# Altium footprint library Conn_Amphenol_ICC_-_FCI_10118193-0001LF_eec_MFG.PcbLib: 1 footprints
Each footprint in its own frame and in the unit in brackets; x right, y up, seen from the top. Pads: shape width x height; smd on the part's side, far side on the other; paste and mask are expansions set on the pad; w line width, h text height; cw(c..) or ccw(c..) is an arc to the next point about the centre after c.
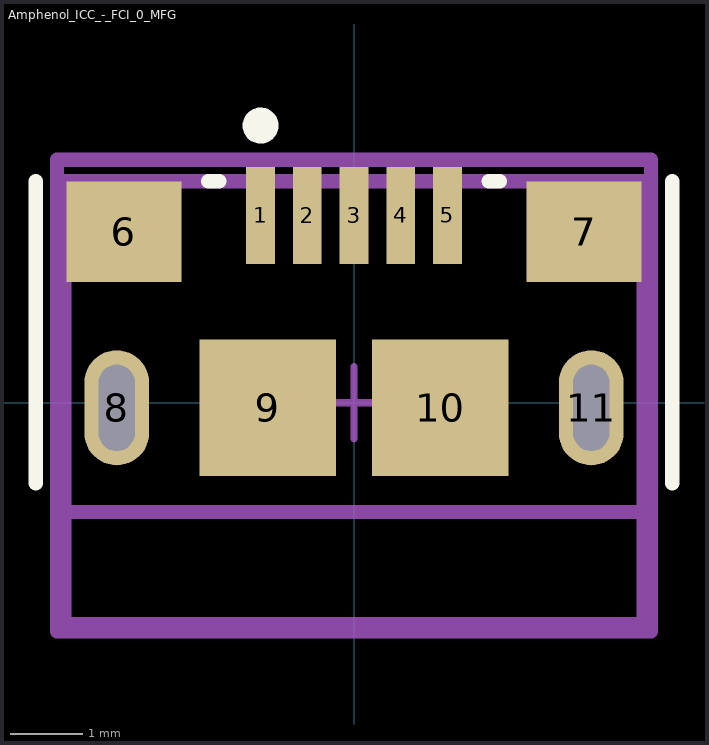
[diagram p0: the footprint, top view; thin cyan lines are the x and y axes]

## Amphenol_ICC_-_FCI_0_MFG [mm]
pads (11):
  rect 0.4x1.35 smd paste+0 mask+0: 1(-1.3,2.605) 2(-0.65,2.605) 3(0,2.605) 4(0.65,2.605) 5(1.3,2.605)
  rect 1.6x1.4 smd paste+0 mask+0: 6(-3.2,2.38) 7(3.2,2.38)
  rrect100% 0.9x1.6 hole 1.2 slot 0.5 at 0 deg paste-1000 mask+0: 8(-3.3,-0.07) 11(3.3,-0.07)
  rect 1.9x1.9 smd paste+0 mask+0: 9(-1.2,-0.07) 10(1.2,-0.07)
Top Overlay:
  circle w0.25: c-1.3,3.855 r0.125
  lines w0.2: -4.425,-1.12 -4.425,3.08 ; -2.025,3.08 -1.875,3.08 ; 1.875,3.08 2.025,3.08 ; 4.425,-1.12 4.425,3.08
Mechanical 10:
  lines w0.2: -4.13,-3.18 4.13,-3.18 4.13,3.38 -4.13,3.38 -4.13,-3.18
  text ".Designator" at 0,0.288 h1
Mechanical 12:
  lines w0.2: -4.13,-1.52 4.13,-1.52 ; -4.03,-3.08 4.03,-3.08 4.03,3.08 -4.03,3.08 -4.03,-3.08
Mechanical 15:
  lines w0.1: -0.5,0 0.5,0 ; 0,-0.5 0,0.5
  lines w0.2: -4.13,-3.18 4.13,-3.18 4.13,3.38 -4.13,3.38 -4.13,-3.18
3D body "Conn_Amphenol_ICC_-_FCI_10118193-0001LF_eec.STEP": height 0.25, standoff 0, extent -4.13,-3.18 4.13,3.38